# Altium schematic symbol library 418117270901.SchLib: 1 symbol
Pins are listed as number, name and electrical type; pins without a type are passive.

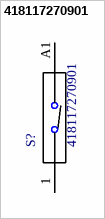
[diagram p0: symbol 418117270901]

## 418117270901
designator S?
/ Dip Switch SPST 1 Position Through Hole Slide _Standard_ Actuator 25mA 24VDC /; MF: Wurth Electronics; MP: 418117270901; SnapEDA_Link: https://www.snapeda.com/parts/418117270901/Wurth%20Electronics%20Inc./view-part/1375150/?ref=snap; Availability: Unavailable; Price: None; Package: None; Value: *
footprint *418117270901_418117270901(Primary)
pins: 1, A1